# EAGLE library part 514260 (library Custom)
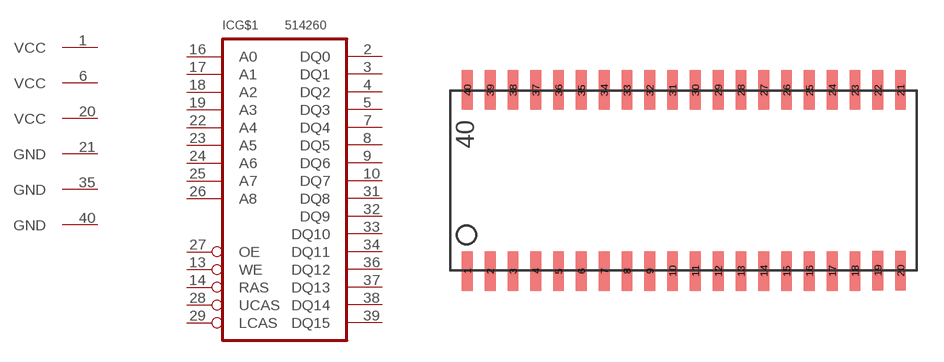
[diagram p28: symbol with the pads of SOJ40/4; footprint SOJ40/4]

Designator prefix IC; gates G$1=514260 G$2=VCC G$3=VCC G$4=VCC G$5=GND G$6=GND G$7=GND

## 514260  [SOJ40/4]
1  G$2:VCC  pwr
2  G$1:DQ0
3  G$1:DQ1
4  G$1:DQ2
5  G$1:DQ3
6  G$3:VCC  pwr
7  G$1:DQ4
8  G$1:DQ5
9  G$1:DQ6
10  G$1:DQ7
13  G$1:WE  in
14  G$1:RAS  in
16  G$1:A0  in
17  G$1:A1  in
18  G$1:A2  in
19  G$1:A3  in
20  G$4:VCC  pwr
21  G$5:GND  pwr
22  G$1:A4  in
23  G$1:A5  in
24  G$1:A6  in
25  G$1:A7  in
26  G$1:A8  in
27  G$1:OE  in
28  G$1:UCAS  in
29  G$1:LCAS  in
31  G$1:DQ8
32  G$1:DQ9
33  G$1:DQ10
34  G$1:DQ11
35  G$6:GND  pwr
36  G$1:DQ12
37  G$1:DQ13
38  G$1:DQ14
39  G$1:DQ15
40  G$7:GND  pwr

## Footprint SOJ40/4 (pad centres in mm)
smd 0.6 x 2.2: 1 -10.795,-5.061; 2 -9.525,-5.061; 3 -8.255,-5.061; 4 -6.985,-5.061; 5 -5.715,-5.061; 6 -4.445,-5.061; 7 -3.175,-5.061; 8 -1.905,-5.061; 9 -0.635,-5.061; 10 0.635,-5.061; 11 1.905,-5.061; 12 3.175,-5.061; 13 4.445,-5.061; 14 5.715,-5.061; 15 6.985,-5.061; 16 8.255,-5.061; 17 9.525,-5.061; 18 10.795,-5.061; 19 12.065,-5.029; 20 13.335,-5.029; 21 13.335,5.029; 22 12.065,5.029; 23 10.795,5.029; 24 9.525,5.029; 25 8.255,5.029; 26 6.985,5.029; 27 5.715,5.029; 28 4.445,5.029; 29 3.175,5.029; 30 1.905,5.029; 31 0.635,5.029; 32 -0.635,5.029; 33 -1.905,5.029; 34 -3.175,5.029; 35 -4.445,5.029; 36 -5.715,5.029; 37 -6.985,5.029; 38 -8.255,5.029; 39 -9.525,5.029; 40 -10.795,5.029